# EAGLE library part EFM32LG232F256 (library EnergyMicro)
EFM32LG232F256 Leopard Microcontroller in 10mm x 10mm QFP64 package
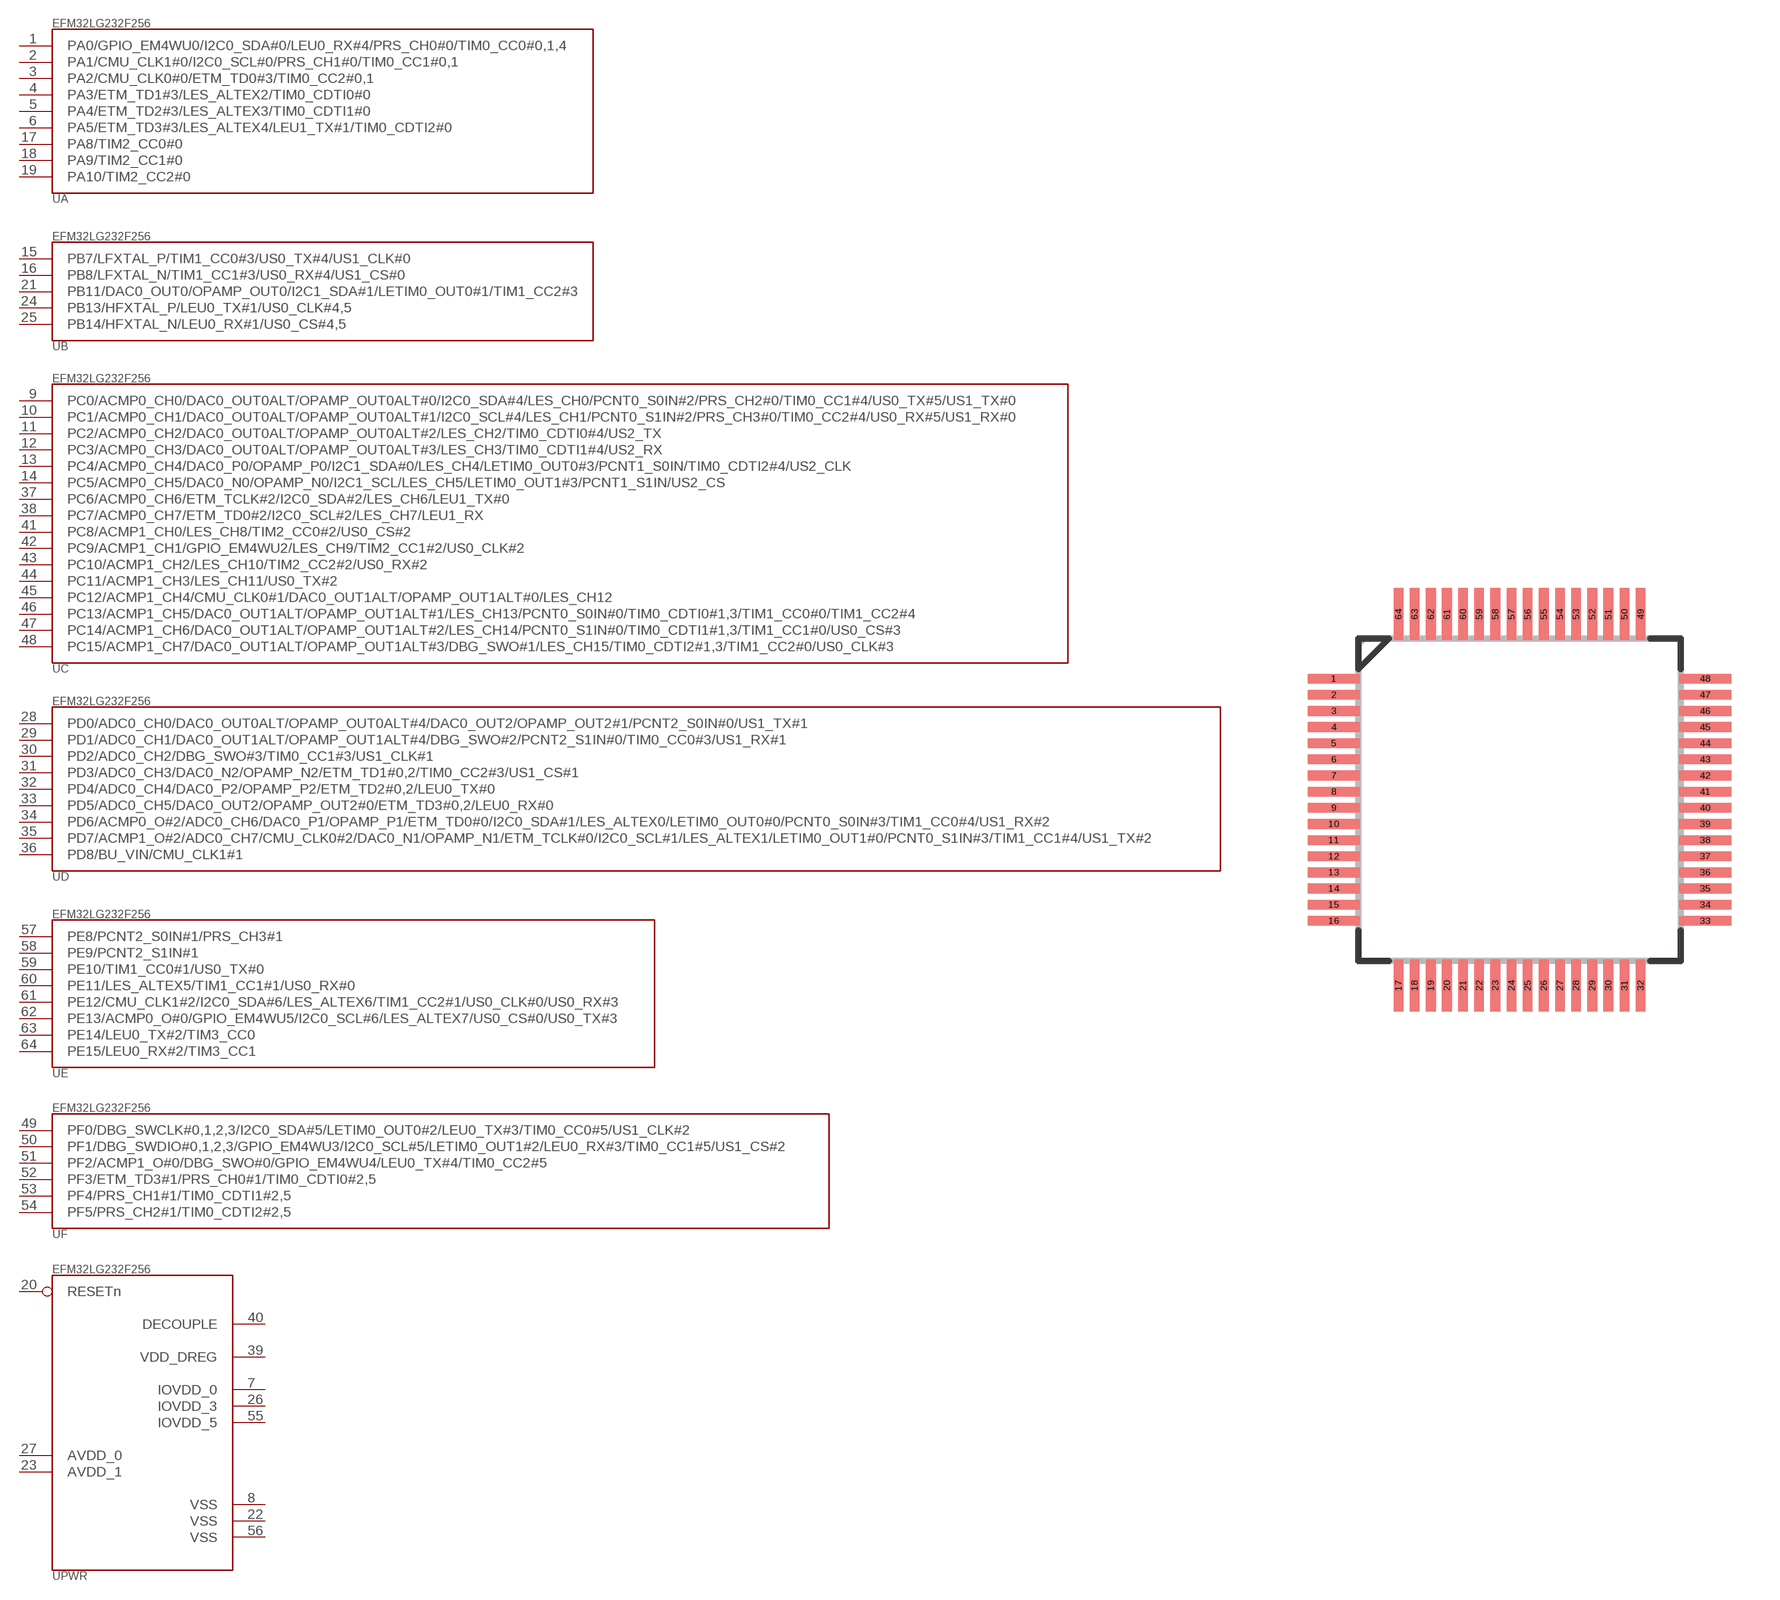
[diagram p72: symbol with the pads of QFP64; footprint QFP64]

Designator prefix -; gates A=EFM32LG232F256_A B=EFM32LG232F256_B C=EFM32LG232F256_C D=EFM32LG232F256_D E=EFM32LG232F256_E F=EFM32LG232F256_F PWR=EFM32LG232F256_PWR

## EFM32LG232F256  [QFP64]
1  A:PA0/GPIO_EM4WU0/I2C0_SDA#0/LEU0_RX#4/PRS_CH0#0/TIM0_CC0#0,1,4
2  A:PA1/CMU_CLK1#0/I2C0_SCL#0/PRS_CH1#0/TIM0_CC1#0,1
3  A:PA2/CMU_CLK0#0/ETM_TD0#3/TIM0_CC2#0,1
4  A:PA3/ETM_TD1#3/LES_ALTEX2/TIM0_CDTI0#0
5  A:PA4/ETM_TD2#3/LES_ALTEX3/TIM0_CDTI1#0
6  A:PA5/ETM_TD3#3/LES_ALTEX4/LEU1_TX#1/TIM0_CDTI2#0
7  PWR:IOVDD_0  pwr
8  PWR:VSS  pwr
9  C:PC0/ACMP0_CH0/DAC0_OUT0ALT/OPAMP_OUT0ALT#0/I2C0_SDA#4/LES_CH0/PCNT0_S0IN#2/PRS_CH2#0/TIM0_CC1#4/US0_TX#5/US1_TX#0
10  C:PC1/ACMP0_CH1/DAC0_OUT0ALT/OPAMP_OUT0ALT#1/I2C0_SCL#4/LES_CH1/PCNT0_S1IN#2/PRS_CH3#0/TIM0_CC2#4/US0_RX#5/US1_RX#0
11  C:PC2/ACMP0_CH2/DAC0_OUT0ALT/OPAMP_OUT0ALT#2/LES_CH2/TIM0_CDTI0#4/US2_TX
12  C:PC3/ACMP0_CH3/DAC0_OUT0ALT/OPAMP_OUT0ALT#3/LES_CH3/TIM0_CDTI1#4/US2_RX
13  C:PC4/ACMP0_CH4/DAC0_P0/OPAMP_P0/I2C1_SDA#0/LES_CH4/LETIM0_OUT0#3/PCNT1_S0IN/TIM0_CDTI2#4/US2_CLK
14  C:PC5/ACMP0_CH5/DAC0_N0/OPAMP_N0/I2C1_SCL/LES_CH5/LETIM0_OUT1#3/PCNT1_S1IN/US2_CS
15  B:PB7/LFXTAL_P/TIM1_CC0#3/US0_TX#4/US1_CLK#0
16  B:PB8/LFXTAL_N/TIM1_CC1#3/US0_RX#4/US1_CS#0
17  A:PA8/TIM2_CC0#0
18  A:PA9/TIM2_CC1#0
19  A:PA10/TIM2_CC2#0
20  PWR:RESETn  pas
21  B:PB11/DAC0_OUT0/OPAMP_OUT0/I2C1_SDA#1/LETIM0_OUT0#1/TIM1_CC2#3
22  PWR:VSS  pwr
23  PWR:AVDD_1  pwr
24  B:PB13/HFXTAL_P/LEU0_TX#1/US0_CLK#4,5
25  B:PB14/HFXTAL_N/LEU0_RX#1/US0_CS#4,5
26  PWR:IOVDD_3  pwr
27  PWR:AVDD_0  pwr
28  D:PD0/ADC0_CH0/DAC0_OUT0ALT/OPAMP_OUT0ALT#4/DAC0_OUT2/OPAMP_OUT2#1/PCNT2_S0IN#0/US1_TX#1
29  D:PD1/ADC0_CH1/DAC0_OUT1ALT/OPAMP_OUT1ALT#4/DBG_SWO#2/PCNT2_S1IN#0/TIM0_CC0#3/US1_RX#1
30  D:PD2/ADC0_CH2/DBG_SWO#3/TIM0_CC1#3/US1_CLK#1
31  D:PD3/ADC0_CH3/DAC0_N2/OPAMP_N2/ETM_TD1#0,2/TIM0_CC2#3/US1_CS#1
32  D:PD4/ADC0_CH4/DAC0_P2/OPAMP_P2/ETM_TD2#0,2/LEU0_TX#0
33  D:PD5/ADC0_CH5/DAC0_OUT2/OPAMP_OUT2#0/ETM_TD3#0,2/LEU0_RX#0
34  D:PD6/ACMP0_O#2/ADC0_CH6/DAC0_P1/OPAMP_P1/ETM_TD0#0/I2C0_SDA#1/LES_ALTEX0/LETIM0_OUT0#0/PCNT0_S0IN#3/TIM1_CC0#4/US1_RX#2
35  D:PD7/ACMP1_O#2/ADC0_CH7/CMU_CLK0#2/DAC0_N1/OPAMP_N1/ETM_TCLK#0/I2C0_SCL#1/LES_ALTEX1/LETIM0_OUT1#0/PCNT0_S1IN#3/TIM1_CC1#4/US1_TX#2
36  D:PD8/BU_VIN/CMU_CLK1#1
37  C:PC6/ACMP0_CH6/ETM_TCLK#2/I2C0_SDA#2/LES_CH6/LEU1_TX#0
38  C:PC7/ACMP0_CH7/ETM_TD0#2/I2C0_SCL#2/LES_CH7/LEU1_RX
39  PWR:VDD_DREG  pwr
40  PWR:DECOUPLE  pwr
41  C:PC8/ACMP1_CH0/LES_CH8/TIM2_CC0#2/US0_CS#2
42  C:PC9/ACMP1_CH1/GPIO_EM4WU2/LES_CH9/TIM2_CC1#2/US0_CLK#2
43  C:PC10/ACMP1_CH2/LES_CH10/TIM2_CC2#2/US0_RX#2
44  C:PC11/ACMP1_CH3/LES_CH11/US0_TX#2
45  C:PC12/ACMP1_CH4/CMU_CLK0#1/DAC0_OUT1ALT/OPAMP_OUT1ALT#0/LES_CH12
46  C:PC13/ACMP1_CH5/DAC0_OUT1ALT/OPAMP_OUT1ALT#1/LES_CH13/PCNT0_S0IN#0/TIM0_CDTI0#1,3/TIM1_CC0#0/TIM1_CC2#4
47  C:PC14/ACMP1_CH6/DAC0_OUT1ALT/OPAMP_OUT1ALT#2/LES_CH14/PCNT0_S1IN#0/TIM0_CDTI1#1,3/TIM1_CC1#0/US0_CS#3
48  C:PC15/ACMP1_CH7/DAC0_OUT1ALT/OPAMP_OUT1ALT#3/DBG_SWO#1/LES_CH15/TIM0_CDTI2#1,3/TIM1_CC2#0/US0_CLK#3
49  F:PF0/DBG_SWCLK#0,1,2,3/I2C0_SDA#5/LETIM0_OUT0#2/LEU0_TX#3/TIM0_CC0#5/US1_CLK#2
50  F:PF1/DBG_SWDIO#0,1,2,3/GPIO_EM4WU3/I2C0_SCL#5/LETIM0_OUT1#2/LEU0_RX#3/TIM0_CC1#5/US1_CS#2
51  F:PF2/ACMP1_O#0/DBG_SWO#0/GPIO_EM4WU4/LEU0_TX#4/TIM0_CC2#5
52  F:PF3/ETM_TD3#1/PRS_CH0#1/TIM0_CDTI0#2,5
53  F:PF4/PRS_CH1#1/TIM0_CDTI1#2,5
54  F:PF5/PRS_CH2#1/TIM0_CDTI2#2,5
55  PWR:IOVDD_5  pwr
56  PWR:VSS  pwr
57  E:PE8/PCNT2_S0IN#1/PRS_CH3#1
58  E:PE9/PCNT2_S1IN#1
59  E:PE10/TIM1_CC0#1/US0_TX#0
60  E:PE11/LES_ALTEX5/TIM1_CC1#1/US0_RX#0
61  E:PE12/CMU_CLK1#2/I2C0_SDA#6/LES_ALTEX6/TIM1_CC2#1/US0_CLK#0/US0_RX#3
62  E:PE13/ACMP0_O#0/GPIO_EM4WU5/I2C0_SCL#6/LES_ALTEX7/US0_CS#0/US0_TX#3
63  E:PE14/LEU0_TX#2/TIM3_CC0
64  E:PE15/LEU0_RX#2/TIM3_CC1

## Footprint QFP64 (pad centres in mm)
smd 1.6 x 0.3: 1 -5.75,3.75; 2 -5.75,3.25; 3 -5.75,2.75; 4 -5.75,2.25; 5 -5.75,1.75; 6 -5.75,1.25; 7 -5.75,0.75; 8 -5.75,0.25; 9 -5.75,-0.25; 10 -5.75,-0.75; 11 -5.75,-1.25; 12 -5.75,-1.75; 13 -5.75,-2.25; 14 -5.75,-2.75; 15 -5.75,-3.25; 16 -5.75,-3.75; 33 5.75,-3.75; 34 5.75,-3.25; 35 5.75,-2.75; 36 5.75,-2.25; 37 5.75,-1.75; 38 5.75,-1.25; 39 5.75,-0.75; 40 5.75,-0.25; 41 5.75,0.25; 42 5.75,0.75; 43 5.75,1.25; 44 5.75,1.75; 45 5.75,2.25; 46 5.75,2.75; 47 5.75,3.25; 48 5.75,3.75
smd 0.3 x 1.6: 17 -3.75,-5.75; 18 -3.25,-5.75; 19 -2.75,-5.75; 20 -2.25,-5.75; 21 -1.75,-5.75; 22 -1.25,-5.75; 23 -0.75,-5.75; 24 -0.25,-5.75; 25 0.25,-5.75; 26 0.75,-5.75; 27 1.25,-5.75; 28 1.75,-5.75; 29 2.25,-5.75; 30 2.75,-5.75; 31 3.25,-5.75; 32 3.75,-5.75; 49 3.75,5.75; 50 3.25,5.75; 51 2.75,5.75; 52 2.25,5.75; 53 1.75,5.75; 54 1.25,5.75; 55 0.75,5.75; 56 0.25,5.75; 57 -0.25,5.75; 58 -0.75,5.75; 59 -1.25,5.75; 60 -1.75,5.75; 61 -2.25,5.75; 62 -2.75,5.75; 63 -3.25,5.75; 64 -3.75,5.75